# Altium footprint library IFX-PG-TDSON-8-V.PcbLib: 1 footprints
Each footprint in its own frame and in the unit in brackets; x right, y up, seen from the top. Pads: shape width x height; smd on the part's side, far side on the other; paste and mask are expansions set on the pad; w line width, h text height; cw(c..) or ccw(c..) is an arc to the next point about the centre after c.
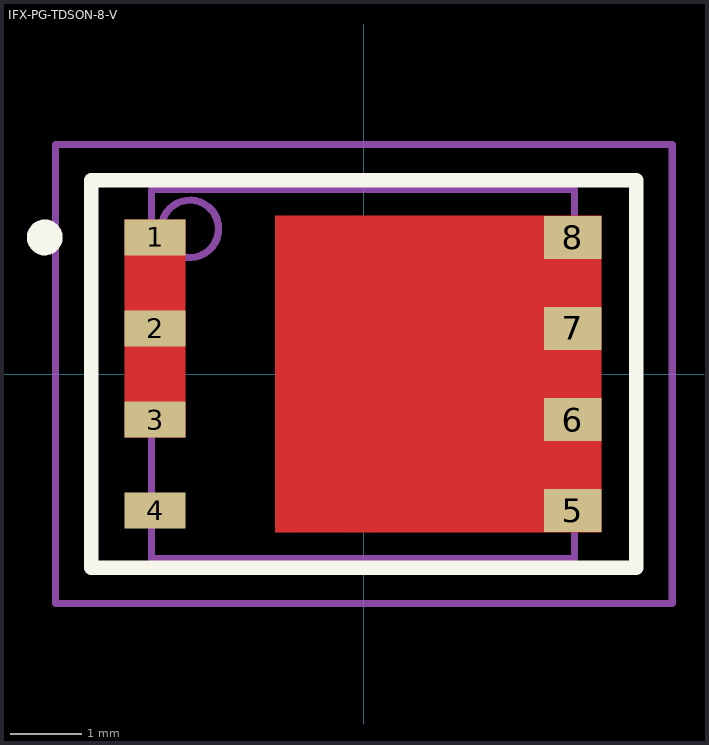
[diagram p0: the footprint, top view; thin cyan lines are the x and y axes]

## IFX-PG-TDSON-8-V [mm] "TDSON 8, 1.27mm pitch; 8 pin,5.90mm W X 5.15mm L X 1.10mm H body"
height 1.1
pads (8):
  rect 0.85x0.5 smd paste+0 mask+0: 1(-2.912,1.905) 2(-2.912,0.635) 3(-2.912,-0.635) 4(-2.912,-1.905)
  rect 0.8x0.6 smd paste+0 mask+0: 5(2.912,-1.905) 6(2.912,-0.635) 7(2.912,0.635) 8(2.912,1.905)
Top Layer:
  rectangle: -3.337,-0.885 -2.488,2.155
  region: 3.312,2.205 -1.237,2.205 -1.237,-2.205 3.312,-2.205
Top Overlay:
  circle w0.25: c-4.45,1.905 r0.125
  lines w0.2: -3.8,-2.7 -3.8,2.7 3.8,2.7 3.8,-2.7 -3.8,-2.7
Top Solder:
  region: -1.237,2.205 -1.237,-2.205 2.512,-2.205 2.512,2.205
M3 (ASY_Text_Top):
  text ".DESIGNATOR" at 0,0 h1.2
M13 (CMP_Body_OTL_Top):
  circle w0.1: c-2.425,2.025 r0.4
  lines w0.1: -2.963,-2.575 2.937,-2.575 2.937,2.575 -2.963,2.575 -2.963,-2.575
M15 (CMP_Courtyard_Top):
  lines w0.1: -0.5,0 0.5,0 ; 0,-0.5 0,0.5 ; -4.3,-3.2 4.3,-3.2 4.3,3.2 -4.3,3.2 -4.3,-3.2
3D body "PG-TDSON-8-7_Z8B00003242_V11_3D.stp": height 1.01, standoff 0, extent -3.088,-2.695 3.062,2.695